# Altium integrated library cap-0603.IntLib: 1 symbol
Pins are listed as number, name and electrical type; pins without a type are passive.

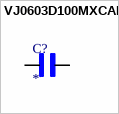
[diagram p0: symbol VJ0603D100MXCAP]

## VJ0603D100MXCAP
designator C?
10 pF Â±20% 200V Ceramic Capacitor C0G, NP0 0603 (1608 Metric); MF: Vishay Vitramon; MP: VJ0603D100MXCAP; SnapEDA_Link: https://www.snapeda.com/parts/VJ0603D100MXCAP/Vishay/view-part/?ref=snap; Package: 1608 Vishay Vitramon; Value: *; Check_prices: https://www.snapeda.com/parts/VJ0603D100MXCAP/Vishay/view-part/?ref=eda
footprint CAPC1608X94N
pins: 1, 2